# Altium footprint library CAPC2012X145N.PcbLib: 1 footprints
Each footprint in its own frame and in the unit in brackets; x right, y up, seen from the top. Pads: shape width x height; smd on the part's side, far side on the other; paste and mask are expansions set on the pad; w line width, h text height; cw(c..) or ccw(c..) is an arc to the next point about the centre after c.
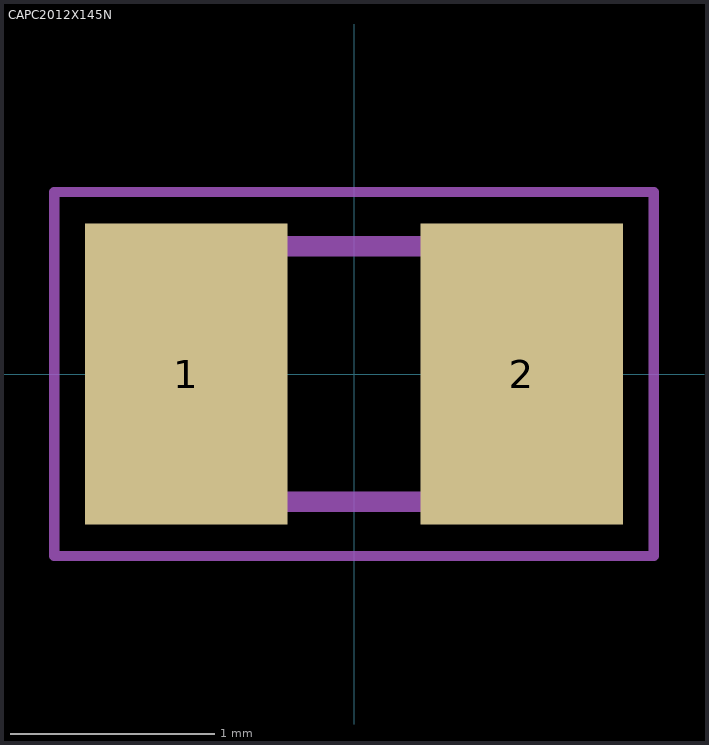
[diagram p0: the footprint, top view; thin cyan lines are the x and y axes]

## CAPC2012X145N [mm]
pads (2):
  rect 0.99x1.47 smd: 1(-0.82,0) 2(0.82,0)
Mechanical 15:
  lines w0.1: -1,-0.625 -1,0.625 1,0.625 1,-0.625 -1,-0.625
Mechanical 20:
  lines w0.05: -1.465,-0.89 -1.465,0.89 1.465,0.89 1.465,-0.89 -1.465,-0.89
3D body "885012107013.stp": height 5.8, standoff -4.65, extent -10,-3.376 10,3.376